# Altium schematic symbol library sika_UI.SCHLIB: 24 symbols
Pins are listed as number, name and electrical type; pins without a type are passive.

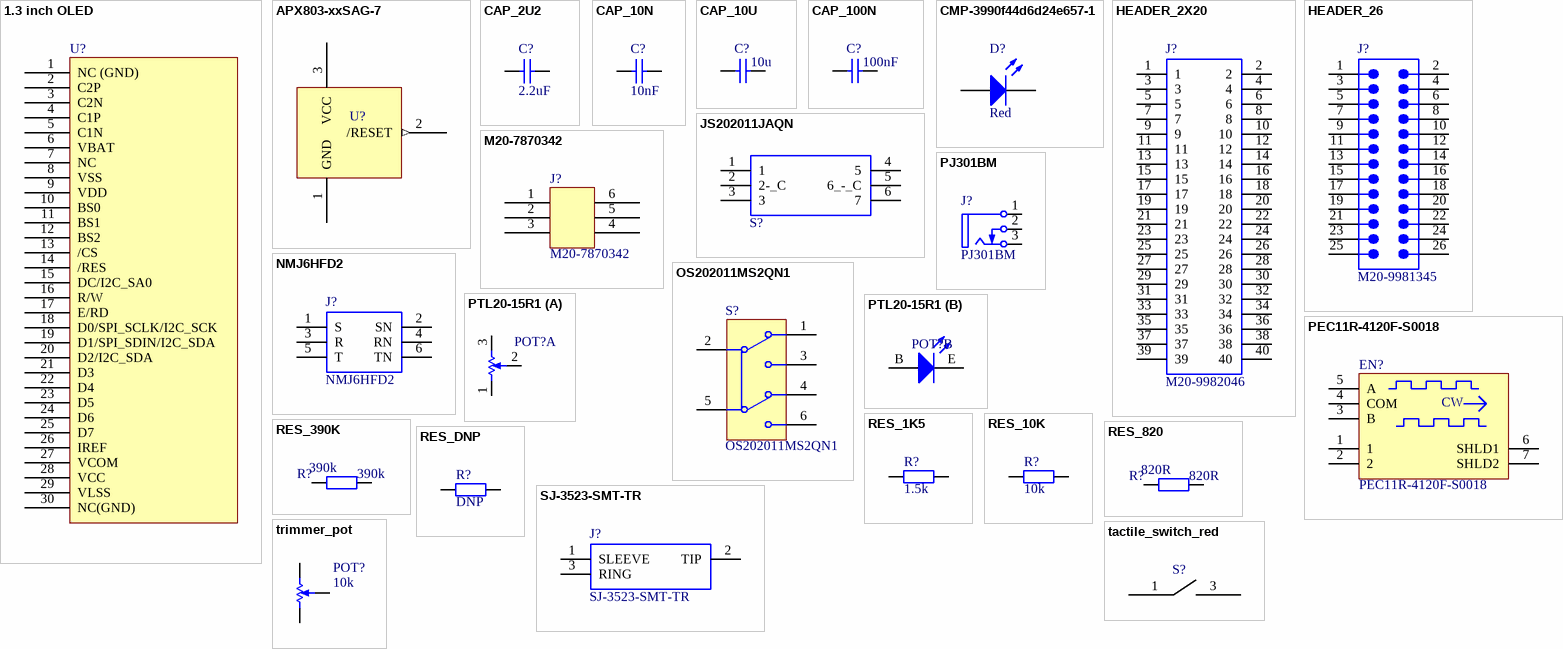
[diagram p0: symbols 1.3 inch OLED to trimmer_pot]

## 1.3 inch OLED
designator U?
ComponentLink1Description: alibaba; ComponentLink1URL: https://www.alibaba.com/product-detail/OLED-1-3-Inch-SSD1306-128x64_62133722486.html?spm=a2700.7724838.2017115.44.38de6fdcIjcxnA&s=p; ComponentLink2Description: adafruit reference; ComponentLink2URL: https://learn.adafruit.com/monochrome-oled-breakouts/downloads
footprint 1.3 inch OLED
pins: 1 NC (GND), 2 C2P, 3 C2N, 4 C1P, 5 C1N, 6 VBAT, 7 NC, 8 VSS, 9 VDD, 10 BS0, 11 BS1, 12 BS2, 13 /CS, 14 /RES, 15 DC/I2C_SA0, 16 R/W, 17 E/RD, 18 D0/SPI_SCLK/I2C_SCK, 19 D1/SPI_SDIN/I2C_SDA, 20 D2/I2C_SDA, 21 D3, 22 D4, 23 D5, 24 D6, 25 D7, 26 IREF, 27 VCOM, 28 VCC, 29 VLSS, 30 NC(GND)

## APX803-xxSAG-7
designator U?, comment reset uC  (value not drawn)
footprint SOT95P245X110-3N (SOT23, 3-Leads, Body 2,90x2,45mm, Pitch 0,95mm, IPC Medium Density)
pins: 1 GND (power), 2 /RESET (out), 3 VCC (power)

## CAP_2U2
designator C?, comment Capacitance: 2.2uF  (hidden comment: CL10B225KP8NNNC)
Cap Ceramic 10%; Manufacturer: Samsung; Dielectric: X7R; Voltage Rating: 10V; Mount: Surface Mount; Case/Package: 0603; Material: Ceramic; Tolerance: 10%; Length: 1.6mm; ComponentLink1URL: https://www.verical.com/server-webapp/html/getDatasheet?partID=357418&src-supplier=Verical; ComponentLink1Description: https://www.verical.com/server-webapp/html/getDatasheet?partID=357418&src-supplier=Verical; ComponentLink2URL: https://produktinfo.conrad.com/datenblaetter/450000-474999/458176-da-01-en-VS_KONDENSATOR_0603.pdf?src-supplier=Conrad; ComponentLink2Description: https://produktinfo.conrad.com/datenblaetter/450000-474999/458176-da-01-en-VS_KONDENSATOR_0603.pdf?src-supplier=Conrad; Supplier 1: Digi-Key; Supplier 2: Digi-Key; Supplier Part Number 1: 1276-1134-1-ND; Supplier Part Number 2: 1276-1134-6-ND
footprint C0603
pins: 1, 2

## CAP_10N
designator C?, comment Capacitance: 10nF  (hidden comment: CL10b103JB8NNNC)
Cap Ceramic 10%; Manufacturer: Samsung; Manufacturer Part Number: CL10B105KO8NNNC; Voltage Rating: 16V; Dielectric: x7r; RoHS: Yes; Mount: Surface Mount; Case/Package: 0603; Case Code (Metric): 1608; Case Code (Imperial): 0603; Material: Ceramic; Min Operating Temperature: -55°C; Max Operating Temperature: 125°C; Tolerance: 10%; Packaging: Tape and Reel; Voltage: 16V; Voltage Rating (DC): 16V; Length: 1.6mm; Height: 0.8mm; Width: 0.031inch; Thickness: 0.035inch; Depth: 0.8mm; Radiation Hardening: No; Lead Free: Lead Free; ComponentLink1URL: https://www.verical.com/server-webapp/html/getDatasheet?partID=357418&src-supplier=Verical; ComponentLink1Description: https://www.verical.com/server-webapp/html/getDatasheet?partID=357418&src-supplier=Verical; ComponentLink2URL: https://produktinfo.conrad.com/datenblaetter/450000-474999/458176-da-01-en-VS_KONDENSATOR_0603.pdf?src-supplier=Conrad; ComponentLink2Description: https://produktinfo.conrad.com/datenblaetter/450000-474999/458176-da-01-en-VS_KONDENSATOR_0603.pdf?src-supplier=Conrad; Supplier 1: Digi-Key; Supplier Part Number 1: 1276-1103-1-ND
footprint C0603
pins: 1, 2

## CAP_10U
designator C?  Capacitance: 10u
Cap Ceramic 10%; Manufacturer: Samsung; Manufacturer Part Number: CL10B105KO8NNNC; Dielectric: X7R; Voltage Rating: 16V; RoHS: Yes; Mount: Surface Mount; Case/Package: 0603; Case Code (Metric): 1608; Case Code (Imperial): 0603; Material: Ceramic; Min Operating Temperature: -55°C; Max Operating Temperature: 125°C; Tolerance: 10%; Packaging: Tape and Reel; Voltage: 16V; Voltage Rating (DC): 16V; Length: 1.6mm; Height: 0.8mm; Width: 0.031inch; Thickness: 0.035inch; Depth: 0.8mm; Radiation Hardening: No; Lead Free: Lead Free; ComponentLink1URL: https://www.verical.com/server-webapp/html/getDatasheet?partID=357418&src-supplier=Verical; ComponentLink1Description: https://www.verical.com/server-webapp/html/getDatasheet?partID=357418&src-supplier=Verical; ComponentLink2URL: https://produktinfo.conrad.com/datenblaetter/450000-474999/458176-da-01-en-VS_KONDENSATOR_0603.pdf?src-supplier=Conrad; ComponentLink2Description: https://produktinfo.conrad.com/datenblaetter/450000-474999/458176-da-01-en-VS_KONDENSATOR_0603.pdf?src-supplier=Conrad; Supplier 1: Digi-Key; Supplier 2: Digi-Key; Supplier Part Number 1: 1276-1005-1-ND; Supplier Part Number 2: 1276-1005-2-ND
footprint C0603
pins: 1, 2

## CAP_100N
designator C?, comment Capacitance: 100nF  (hidden comment: CL10B104KO8NNNC)
Cap Ceramic 10%; Manufacturer: Samsung; Manufacturer Part Number: CL10B105KO8NNNC; Dielectric: X7R; Voltage Rating: 16V; RoHS: Yes; Mount: Surface Mount; Case/Package: 0603; Case Code (Metric): 1608; Case Code (Imperial): 0603; Material: Ceramic; Min Operating Temperature: -55°C; Max Operating Temperature: 125°C; Tolerance: 10%; Packaging: Tape and Reel; Voltage: 16V; Voltage Rating (DC): 16V; Length: 1.6mm; Height: 0.8mm; Width: 0.031inch; Thickness: 0.035inch; Depth: 0.8mm; Radiation Hardening: No; Lead Free: Lead Free; ComponentLink1URL: https://www.verical.com/server-webapp/html/getDatasheet?partID=357418&src-supplier=Verical; ComponentLink1Description: https://www.verical.com/server-webapp/html/getDatasheet?partID=357418&src-supplier=Verical; ComponentLink2URL: https://produktinfo.conrad.com/datenblaetter/450000-474999/458176-da-01-en-VS_KONDENSATOR_0603.pdf?src-supplier=Conrad; ComponentLink2Description: https://produktinfo.conrad.com/datenblaetter/450000-474999/458176-da-01-en-VS_KONDENSATOR_0603.pdf?src-supplier=Conrad; Supplier 1: Digi-Key; Supplier 2: Digi-Key; Supplier Part Number 1: 1276-1005-1-ND; Supplier Part Number 2: 1276-1005-2-ND
footprint C0603
pins: 1, 2

## CMP-3990f44d6d24e657-1
designator D?, comment Color: Red  (hidden comment: 0)
Standard LEDs; SMD 0610 Dome Lens LED; 1.6x0.8 mm; Red; (Cut Reel); Manufacturer Part Number: APTD1608LSURCK; Octopart URL: http://octopart.com/aptd1608lsurck-kingbright-81228242; OctopartID: 3990f44d6d24e657; Supplier 1: Digi-Key; Supplier Part Number 1: 754-2038-1-ND
footprint PCB-9pb35s7134wdnkutz46f-1
pins: 1 A, 2 K

## HEADER_2X20
designator J?, comment M20-9982046
Unshrouded, Pitch 2.54 mm, 6.1 mm Mating distance; Manufacturer_Name: 3M; Manufacturer_Part_Number: 4P01-2A02-DA; Manufacturer: Harwin; Allied_Number: 70114575; Geometry.Height: 11.2mm; Number of Contacts: 20; Contact Resistance: 25mR; Max Current Rating: 3A; Gender: Male; Number of Positions: 40; Connector Type: Male Pin; Pitch: 0.1inch; RS Part Number: 8277403; RS Price/Stock: http://uk.rs-online.com/web/p/products/8277403; Allied Price/Stock: https://www.alliedelec.com/3m-4p01-2a02-da/70114575/; Arrow Part Number: 4P01-2A02-DA; Arrow Price/Stock: https://www.arrow.com/en/products/4p01-2a02-da/3m; Datasheet Link: http://multimedia.3m.com/mws/media/729589O/3mtm-conn-for-pc104-embedded-sys-apps-compliantbuscomp-cd2392.pdf; Supplier 1: Digi-Key; Manufacturer Part Number: M20-9982046; Stock 1: 281; Pricing 1: 1 = 1,40000, 10 = 1,22900, 100 = 1,06040, 500 = 0,86760, 1000 = 0,77120, 5000 = 0,67480, 10000 = 0,64106 (USD); RoHS: Yes; Mount: Through Hole; Contact Plating: Tin; Contact Material: Brass; Color: Black; Housing Color: Black; Housing Material: Nylon; Min Operating Temperature: -40°C; Max Operating Temperature: 105°C; Number of Rows: 2; Termination: Solder; Packaging: Bulk; Package Quantity: 100; Orientation: Straight; Length: 50.8mm; Row Spacing: 0.1inch; Depth: 5.08mm; Radiation Hardening: No; ComponentLink1URL: http://www.mouser.com/ds/2/181/Harwin_Product_Catalog_page_207-1131241.pdf?src-supplier=Mouser; ComponentLink1Description: http://www.mouser.com/ds/2/181/Harwin_Product_Catalog_page_207-1131241.pdf?src-supplier=Mouser; ComponentLink2URL: http://cdn.harwin.com/pdfs/60page147.pdf?src-supplier=Digi-Key; ComponentLink2Description: http://cdn.harwin.com/pdfs/60page147.pdf?src-supplier=Digi-Key; ComponentLink3URL: https://cdn.harwin.com/pdfs/M20-998.pdf?src-supplier=Digi-Key; ComponentLink3Description: https://cdn.harwin.com/pdfs/M20-998.pdf?src-supplier=Digi-Key; ComponentLink4URL: http://components.arrow.com/part/dataview/0323_00724856?src-supplier=Arrow+Europe; ComponentLink4Description: http://components.arrow.com/part/dataview/0323_00724856?src-supplier=Arrow+Europe; ComponentLink5URL: https://cdn.harwin.com/pdfs/Harwin_PC_Connectors_M20.pdf?src-supplier=Digi-Key; ComponentLink5Description: https://cdn.harwin.com/pdfs/Harwin_PC_Connectors_M20.pdf?src-supplier=Digi-Key; Supplier Part Number 1: 952-3298-ND; Weight: 0.083952oz; Contact Mating Length: 0.24inch; ComponentLink6URL: https://cdn.harwin.com/pdfs/60page147.pdf?src-supplier=Avnet+Europe; ComponentLink6Description: https://cdn.harwin.com/pdfs/60page147.pdf?src-supplier=Avnet+Europe
footprint header2x20 (Footprint not found)
pins: 1, 2, 3, 4, 5, 6, 7, 8, 9, 10, 11, 12, 13, 14, 15, 16, 17, 18, 19, 20, 21, 22, 23, 24, 25, 26, 27, 28, 29, 30, 31, 32, 33, 34, 35, 36, 37, 38, 39, 40

## HEADER_26
designator J?, comment M20-9981345
CONN HEADER 26POS .100 STR 15AU; Manufacturer: Amphenol FCI; Manufacturer Part Number: 67997-226HLF; Number of Contacts: 26; Current Rating: 3A; Voltage Rating: 1.5kV; Insulation Resistance: 5GR; Gender: Male; Connector Type: Male Pin; Pitch: 2.54mm; Row Spacing: 0.1inch; Contact Post Length: 3.05mm; Contact Resistance: 25mR; RoHS: Yes; Mount: Through Hole; Contact Plating: Gold; Contact Material: Bronze; Color: Black; Housing Color: Black; Housing Material: Thermoplastic; Min Operating Temperature: -65°C; Max Operating Temperature: 125°C; Number of Rows: 2; Termination: Solder; Package Quantity: 100; Packaging: Bulk; Contact Gender: Male; Number of Positions: 26; Max Voltage Rating (AC): 1.5kV; Orientation: Straight; Length: 33.02mm; Contact Mating Length: 0.23inch; Depth: 4.83mm; Flammability Rating: UL94 V-0; ComponentLink1URL: https://datasheet.ciiva.com/5151/67996-223434-5151673.pdf?src-supplier=Mouser; ComponentLink1Description: https://datasheet.ciiva.com/5151/67996-223434-5151673.pdf?src-supplier=Mouser; ComponentLink2URL: https://datasheet.ciiva.com/729/67996-729016.pdf?src-supplier=Digi-Key; ComponentLink2Description: https://datasheet.ciiva.com/729/67996-729016.pdf?src-supplier=Digi-Key; ComponentLink3URL: https://datasheet.ciiva.com/16726/67996-16726297.pdf?src-supplier=Avnet+Europe; ComponentLink3Description: https://datasheet.ciiva.com/16726/67996-16726297.pdf?src-supplier=Avnet+Europe; ComponentLink4URL: https://datasheet.ciiva.com/10125/67996-10125053.pdf?src-supplier=Avnet; ComponentLink4Description: https://datasheet.ciiva.com/10125/67996-10125053.pdf?src-supplier=Avnet; ComponentLink5URL: http://www.mouser.com/ds/2/181/Harwin_Product_Catalog_page_207-1131241.pdf?src-supplier=Mouser; ComponentLink5Description: http://www.mouser.com/ds/2/181/Harwin_Product_Catalog_page_207-1131241.pdf?src-supplier=Mouser; Max Current Rating: 3A; ComponentLink6URL: http://components.arrow.com/part/dataview/0323_00725754?src-supplier=Arrow+Europe; ComponentLink6Description: http://components.arrow.com/part/dataview/0323_00725754?src-supplier=Arrow+Europe; ComponentLink7URL: http://www.harwin.com/include/downloads/pdfs/2010PAGE129.PDF?src-supplier=Avnet; ComponentLink7Description: http://www.harwin.com/include/downloads/pdfs/2010PAGE129.PDF?src-supplier=Avnet; ComponentLink8URL: https://cdn.harwin.com/pdfs/60page147.pdf?src-supplier=Avnet+Europe; ComponentLink8Description: https://cdn.harwin.com/pdfs/60page147.pdf?src-supplier=Avnet+Europe; Supplier 1: Digi-Key; Stock 1: 2058; Pricing 1: 1 = 0,91000, 10 = 0,80100, 100 = 0,69080, 500 = 0,56520, 1000 = 0,50240, 5000 = 0,43960, 10000 = 0,41762 (USD); ComponentLink9URL: http://cdn.harwin.com/pdfs/60page147.pdf?src-supplier=Digi-Key; ComponentLink9Description: http://cdn.harwin.com/pdfs/60page147.pdf?src-supplier=Digi-Key; Supplier Part Number 1: 952-3297-ND; ComponentLink10URL: https://cdn.harwin.com/pdfs/Harwin_PC_Connectors_M20.pdf?src-supplier=Digi-Key; ComponentLink10Description: https://cdn.harwin.com/pdfs/Harwin_PC_Connectors_M20.pdf?src-supplier=Digi-Key
footprint HEADER_26 (Assembly .025" [.64] SQ Post Terminal Strip, 2x13 Pins, Vertical, 2.54mm Pitch, Male)
pins: 1, 2, 3, 4, 5, 6, 7, 8, 9, 10, 11, 12, 13, 14, 15, 16, 17, 18, 19, 20, 21, 22, 23, 24, 25, 26

## JS202011JAQN
designator S?, comment *JS202011JAQN  (value not drawn)
SWITCH SMD SLIDE DPDT 300MA 6V; Manufacturer: ITT C&K; Supplier 1: Digi-Key; Manufacturer Part Number: JS202011JAQN; Stock 1: 8914; Pricing 1: 1 = 0,51000, 10 = 0,48800, 25 = 0,47760, 50 = 0,42680, 100 = 0,40660, 250 = 0,39640, 500 = 0,33542 (USD); RoHS: No; ComponentLink1URL: https://www.ckswitches.com/media/1422/js.pdf?src-supplier=Digi-Key; ComponentLink1Description: https://www.ckswitches.com/media/1422/js.pdf?src-supplier=Digi-Key; Supplier Part Number 1: CKN10722CT-ND
footprint JS202011JAQN
pins: 1, 2 2-_C, 3, 4 5, 5 6_-_C, 6 7

## M20-7870342
designator J?
Manufacturer: Harwin; Number of Positions: 6; Connector Type: Receptacle,Socket; Pitch: 0.1inch; Supplier 1: Mouser; Manufacturer Part Number: M20-7870342; Stock 1: 5980; Pricing 1: 1 = 0,78000, 10 = 0,62600, 100 = 0,54400, 500 = 0,49000, 1000 = 0,43500, 2500 = 0,39400, 5000 = 0,38100, 10000 = 0,36200, 25000 = 0,34800 (USD); RoHS: Yes; Mount: Surface Mount; Color: Black; Contact Plating: Gold; Number of Rows: 2; Package Quantity: 73; Packaging: Rail/Tube; Termination: Solder; Row Spacing: 0.1inch; ComponentLink1URL: https://datasheet.ciiva.com/15015/m20-787-15015039.pdf?src-supplier=Digi-Key; ComponentLink1Description: https://datasheet.ciiva.com/15015/m20-787-15015039.pdf?src-supplier=Digi-Key; Supplier Part Number 1: 855-M20-7870342
footprint M207870342
pins: 1, 2, 3, 4, 5, 6

## NMJ6HFD2
designator J?
Phone Connectors 3C STEREO 3-SPST NC; Manufacturer_Name: Neutrik; Allied_Number: 70229136; Geometry.Height: 15.69mm; Manufacturer_Part_Number: NMJ6HFD2; Mouser Part Number: 550-20301; Mouser Price/Stock: https://www.mouser.com/Search/Refine.aspx?Keyword=550-20301; RS Part Number: *; RS Price/Stock: *; Allied Price/Stock: https://www.alliedelec.com/neutrik-nmj6hfd2/70229136/; Datasheet Link: https://www.neutrik.com/media/8586/download/st-nmj6hfd2.pdf?v=1
footprint NMJ6HFD2
pins: 1 S, 2 SN, 3 R, 4 RN, 5 T, 6 TN

## OS202011MS2QN1
designator S?
SWITCH SLIDE DPDT 100MA 12V; Manufacturer: ITT C&K; Mechanical Life: 10000Cycles; Actuator Material: Polyoxymethylene,Acetal; Switch Travel: 2mm; Switch Function: On-On; Actuator Type: Standard; Actuator Length: 4mm; Supplier 1: Digi-Key; Manufacturer Part Number: OS202011MS2QN1; Stock 1: 4212; Pricing 1: 1 = 0,60000, 10 = 0,57200, 25 = 0,56000, 50 = 0,50060, 100 = 0,47670, 250 = 0,46480, 500 = 0,39328, 1000 = 0,38136, 5000 = 0,33369 (USD); RoHS: Yes; Mount: Through Hole,Brackets; Contact Material: Copper Alloy; Contact Plating: Silver,Gold; Housing Material: Resin; Min Operating Temperature: -30°C; Max Operating Temperature: 70°C; Throw Configuration: DPDT; Max Voltage Rating (DC): 12V; Packaging: Bulk; Termination: PC Pins; Orientation: Straight; Voltage Rating (DC): 12V; Max Current Rating: 100mA; Package Quantity: 200; Current Rating: 100mA; Electrical Life: 10000Cycles; Length: 8.6mm; Depth: 6.8mm; Radiation Hardening: No; REACH SVHC: No SVHC; Lead Free: Lead Free; ComponentLink1URL: https://datasheet.ciiva.com/2889/os-19jan15-2889195.pdf?src-supplier=Digi-Key; ComponentLink1Description: https://datasheet.ciiva.com/2889/os-19jan15-2889195.pdf?src-supplier=Digi-Key; Supplier Part Number 1: CKN9545-ND
footprint OS202011MS2QN1
pins: 1, 2, 3, 4, 5, 6

## PEC11R-4120F-S0018
designator EN?
Encoders 20mm SHAFT w/SWITCH; Manufacturer: Bourns; Number of Channels: 2; Encoder Type: Mechanical; Pulses per Revolution: 18; Detent: Yes; Output Type: Quadrature; Hole Diameter: 1mm; Supplier 1: Digi-Key; Manufacturer Part Number: PEC11R-4120F-S0018; Stock 1: 443; Pricing 1: 1 = 1,91000, 10 = 1,68200, 25 = 1,50800, 75 = 1,45000, 150 = 1,39200, 300 = 1,33400, 525 = 1,10200, 1050 = 1,04400, 5025 = 0,87000 (USD); RoHS: Yes; Mount: Through Hole; Number of Pins: 5; Min Operating Temperature: -30°C; Max Operating Temperature: 70°C; Package Quantity: 75; Packaging: Bulk; Termination: PC Pin; Orientation: Vertical; Built in Switch: Yes; Length: 26.5mm; Height: 13.4mm; Width: 12.5mm; Radiation Hardening: No; REACH SVHC: No SVHC; ComponentLink1URL: https://datasheet.ciiva.com/29519/pec11r-29519849.pdf?src-supplier=Digi-Key; ComponentLink1Description: https://datasheet.ciiva.com/29519/pec11r-29519849.pdf?src-supplier=Digi-Key; ComponentLink2URL: https://datasheet.ciiva.com/12176/pec11r-221203-12176941.pdf?src-supplier=Mouser; ComponentLink2Description: https://datasheet.ciiva.com/12176/pec11r-221203-12176941.pdf?src-supplier=Mouser; ComponentLink3URL: https://datasheet.ciiva.com/29927/pec11r-29927631.pdf?src-supplier=Avnet; ComponentLink3Description: https://datasheet.ciiva.com/29927/pec11r-29927631.pdf?src-supplier=Avnet; Supplier 2: Mouser; Stock 2: 160; Pricing 2: 1 = 1,91000, 10 = 1,50000, 50 = 1,45000, 100 = 1,39000, 1000 = 1,04000, 10000 = 0,87000 (USD); Supplier Part Number 1: PEC11R-4120F-S0018-ND; Supplier Part Number 2: 652-PEC11R-4120F-S18
footprint BOUR-PEC11R-4XXXF-SXXXX_V - Cloned (THD, 5-Leads, Body 12.5x13.4mm)
pins: 1, 2, 3 B "Channel B", 4 COM "Common", 5 A "Channel A", 6 SHLD1, 7 SHLD2
text: CW

## PJ301BM
designator J?
footprint PJ301BM
pins: 1 S (power) "Sleeve (Ground)", 2 TN "Tip Normal (Break Contact)", 3 T "Tip"

## PTL20-15R1
designator POT?
ComponentLink1Description: Datasheet; ComponentLink1URL: https://www.bourns.com/docs/Product-Datasheets/PTL.pdf; Supplier link: https://www.mouser.se/ProductDetail/652-PTL20-15G1-203B2
footprint slide pot 20 mm
part A pins: 1, 2, 3
part B pins: B, E

## RES_1K5
designator R?, comment Resistance: 1.5k  (hidden comment: CR0603-FX-1501ELF)
Resistor, Ceramic; Power rating: *mW; Precision: *%; Temp coefficient: *ppm; Voltage rating: *V; CustomComponentID: rbfzudi508nk54panp5s; Supplier 1: Digi-Key; Supplier Part Number 1: CR0603-FX-1501ELFCT-ND
footprint R0603
pins: 1, 2

## RES_10K
designator R?, comment Resistance: 10k  (hidden comment: CR0603-FX-1002ELF)
Resistor, Ceramic; Power rating: *mW; Precision: *%; Temp coefficient: *ppm; Voltage rating: *V; CustomComponentID: rbfzudi508nk54panp5s; Supplier 1: Digi-Key; Supplier Part Number 1: CR0603-FX-1002ELFCT-ND
footprint R0603
pins: 1, 2

## RES_390K
designator R?, comment 390k
Resistor, Ceramic; Power rating: *mW; Precision: *%; Temp coefficient: *ppm; Voltage rating: *V; CustomComponentID: rbfzudi508nk54panp5s; Resistance: 390k
footprint R0603
footprint R1206
pins: 1, 2

## RES_820
designator R?, comment 820R
Resistor, Ceramic; Power rating: *mW; Precision: *%; Temp coefficient: *ppm; Voltage rating: *V; CustomComponentID: rbfzudi508nk54panp5s; Resistance: 820R
footprint R0603
footprint R1206
pins: 1, 2

## RES_DNP
designator R?, comment Resistance: DNP  (hidden comment: CR0603-FX-1501ELF)
Resistor, Ceramic; Power rating: *mW; Precision: *%; Temp coefficient: *ppm; Voltage rating: *V; CustomComponentID: rbfzudi508nk54panp5s; Supplier 1: Digi-Key; Supplier Part Number 1: CR0603-FX-1501ELFCT-ND
footprint R0603
pins: 1, 2

## SJ-3523-SMT-TR
designator J?
CONN JACK STEREO 3.5MM SMD R/A; Manufacturer: CUI; Gender: Female; Shielding: Unshielded; Current Rating: 1A; Number of Conductors: 3; Number of Ports: 1; Supplier 1: Digi-Key; Manufacturer Part Number: SJ-3523-SMT-TR; Stock 1: 33904; Pricing 1: 1 = 1,02000, 10 = 0,90000, 25 = 0,84760, 50 = 0,81220, 100 = 0,77680, 250 = 0,70620, 500 = 0,63558 (USD); RoHS: Yes; Mount: Surface Mount; Contact Plating: Silver; Color: Black; Packaging: Cut Tape; Termination: Solder; Connector Type: Jack; Orientation: Horizontal; Lead Free: Lead Free; ComponentLink1URL: https://datasheet.ciiva.com/7356/sj-352x-smt-series-7356569.pdf?src-supplier=Digi-Key; ComponentLink1Description: https://datasheet.ciiva.com/7356/sj-352x-smt-series-7356569.pdf?src-supplier=Digi-Key; ComponentLink2URL: https://datasheet.ciiva.com/7356/sj-352x-smt-series-7356553.pdf?src-supplier=Digi-Key; ComponentLink2Description: https://datasheet.ciiva.com/7356/sj-352x-smt-series-7356553.pdf?src-supplier=Digi-Key; Supplier Part Number 1: CP-3523SJCT-ND
footprint SJ3523SMTTR
pins: 1 SLEEVE, 2 TIP, 3 RING

## tactile_switch_red
designator S?, comment 1825910-7  (value not drawn)
Switch Tactile OFF (ON) SPST Round Button PC Pins 0.05A 24VDC 100000Cycles 2.55N Thru-Hole Loose; Manufacturer: TE Connectivity; Actuator Material: PBT; Max Voltage Rating (DC): 24V; Contact Resistance: 100mR; Illumination Type: Non-Illuminated; Contact Current Rating: 50mA; Switch Travel: 0.25mm; Switch Function: Off-Mom; Actuator Type: Standard; Actuator Length: 0.055inch; Supplier 1: Digi-Key; Manufacturer Part Number: 1825910-7; Stock 1: 162111; Pricing 1: 1 = 0,11000, 10 = 0,10600, 25 = 0,10240, 50 = 0,09900, 100 = 0,09340, 250 = 0,08792, 500 = 0,08428, 1000 = 0,06412, 5000 = 0,05313 (USD); RoHS: Yes; Mount: Through Hole; Contact Material: Copper Alloy; Contact Plating: Silver; Mechanical Life: 100000Cycles; Min Operating Temperature: -35°C; Max Operating Temperature: 85°C; Operating Force: 2.55N; Throw Configuration: SPST; Termination: PC Pins; Packaging: Loose Piece; Package Quantity: 750; Type: Switch; Voltage Rating (DC): 24V; Electrical Life: 100000Cycles; Orientation: Straight; Max Current Rating: 50mA; Length: 5.99mm; Depth: 7.8mm; Radiation Hardening: No; REACH SVHC: Unknown; ELV: Compliant; Lead Free: Lead Free; ComponentLink1URL: https://datasheet.ciiva.com/30117/17-30117153.pdf?src-supplier=Onlinecomponents.com; ComponentLink1Description: https://datasheet.ciiva.com/30117/17-30117153.pdf?src-supplier=Onlinecomponents.com; ComponentLink2URL: https://datasheet.ciiva.com/16312/1825910-7-16312610.pdf?src-supplier=Future+Electronics; ComponentLink2Description: https://datasheet.ciiva.com/16312/1825910-7-16312610.pdf?src-supplier=Future+Electronics; ComponentLink3URL: https://datasheet.ciiva.com/16987/0900766b808a3755-16987820.pdf?src-supplier=Allied+Electronics; ComponentLink3Description: https://datasheet.ciiva.com/16987/0900766b808a3755-16987820.pdf?src-supplier=Allied+Electronics; Supplier Part Number 1: 450-1804-ND
footprint tactile_switch
pins: 1, 2 hidden, 3, 4 hidden

## trimmer_pot
designator POT?, comment 10k
25 mm tall (thonk); resistance: 10k; ComponentLink1Description: https://www.thonk.co.uk/shop/alpha-9mm-pots/; ComponentLink1URL: https://www.thonk.co.uk/shop/alpha-9mm-pots/
footprint trim pot 25mm (https://www.thonk.co.uk/shop/alpha-9mm-pots/)
pins: P$1, P$2, P$3